# Altium schematic symbol library Schlib1.SchLib: 3 symbols
Pins are listed as number, name and electrical type; pins without a type are passive.

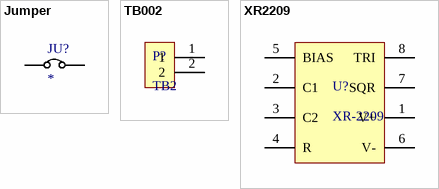
[diagram p0: symbols Jumper to XR2209]

## Jumper
designator JU?
footprint Jumper_3mm
footprint Jumper_6mm
footprint Jumper_10mm
pins: 1, 2

## TB002
designator P?, comment TB2
footprint TB002
pins: 1, 2

## XR2209
designator U?, comment XR-2209
footprint DIP_8 (DIP, pitch 2.54mm, 300mil Width)
pins: 1 V+, 2 C1, 3 C2, 4 R, 5 BIAS, 6 V-, 7 SQR, 8 TRI